# Altium schematic symbol library Regulator_Switching.SchLib: 1279 symbols (part 7 of 14)
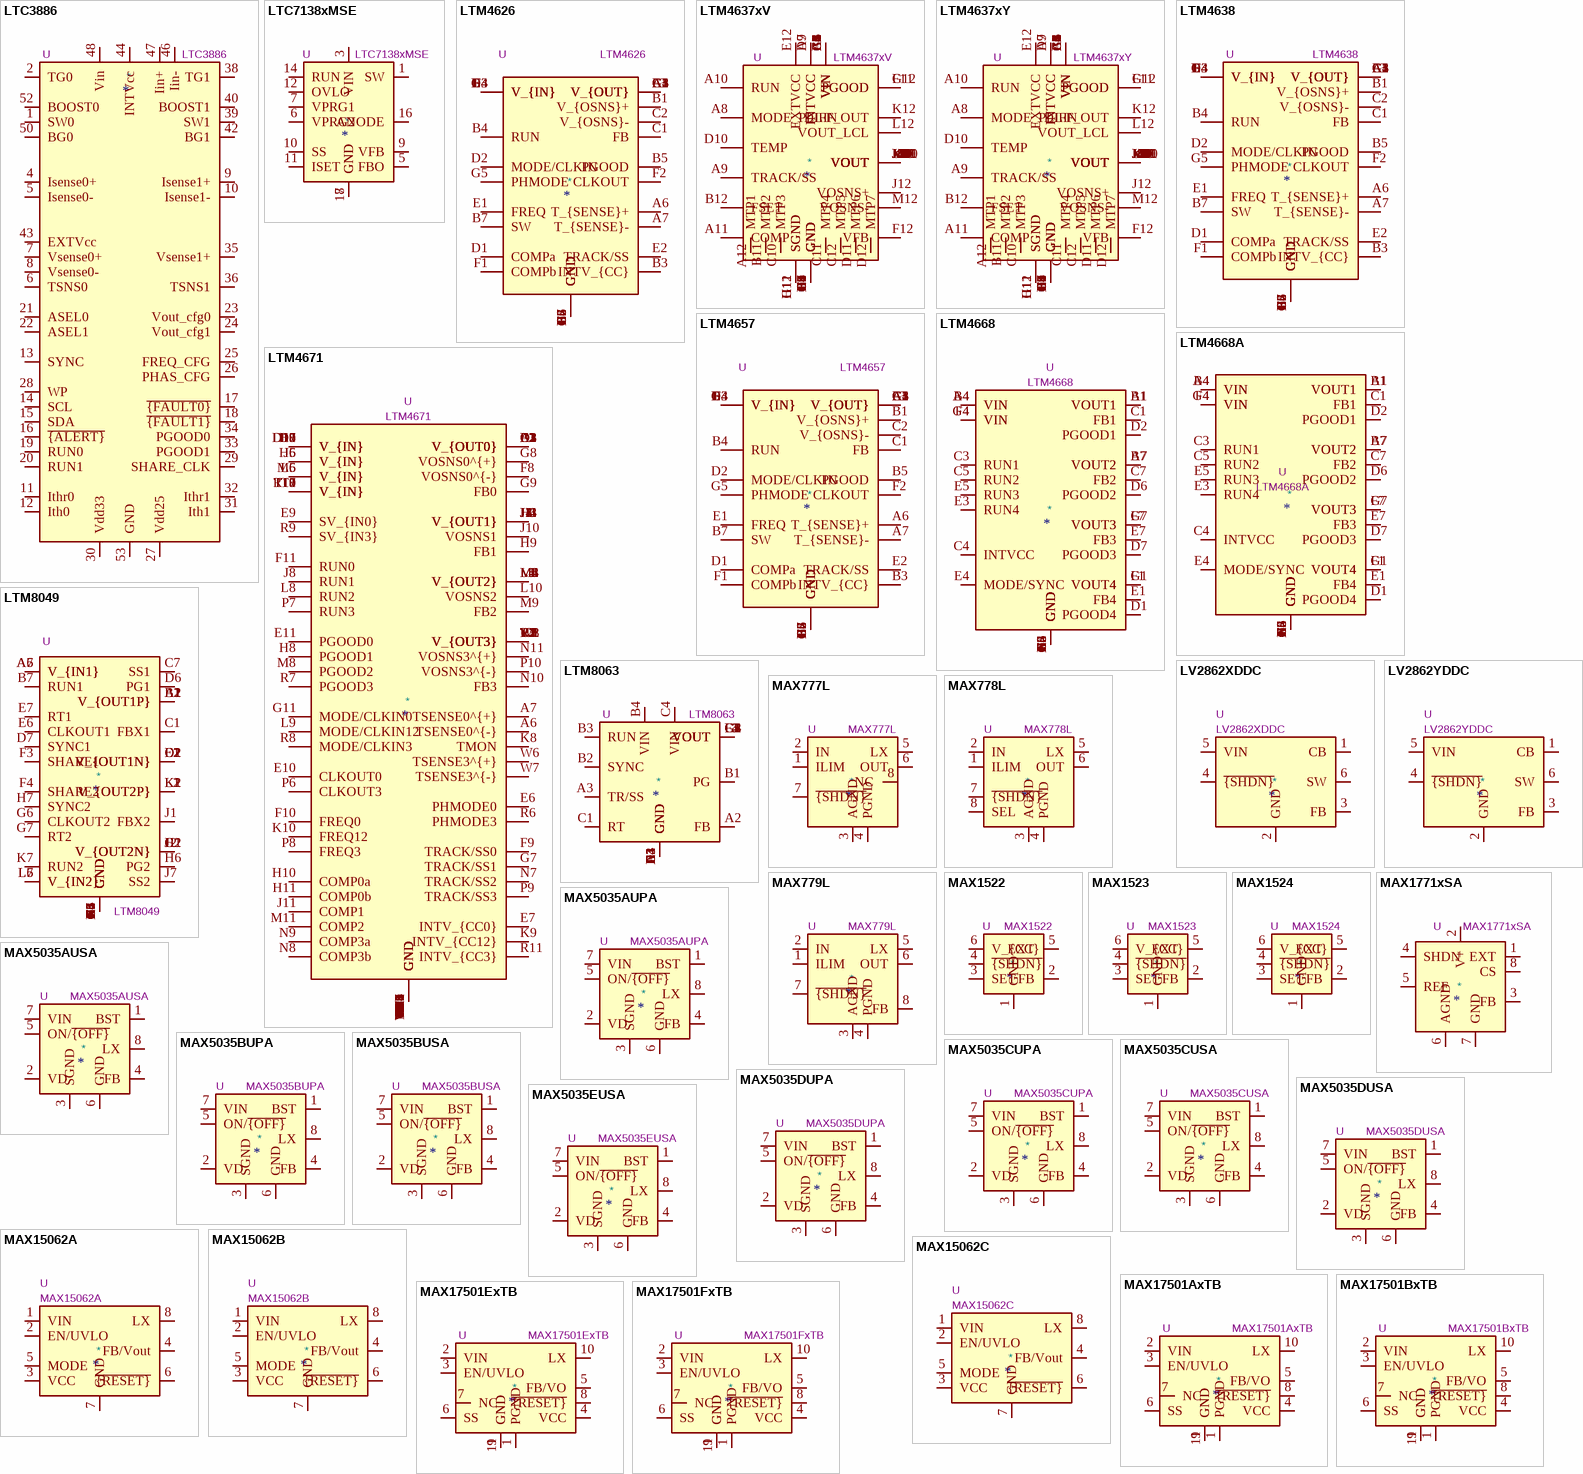
[diagram p38: symbols LTC3886 to MAX17501FxTB]

## MAX5035BUSA
designator *  value MAX5035BUSA  Reference: U
1A, High-Efficiency Step-Down DC-DC Converter, 5V fixed output voltage, Vin 76V, SO-8; ki_keywords: 5V 1A Step-Down Converter 76V; ki_fp_filters: SOIC*3.9x4.9mm*P1.27mm*; Footprint: Package_SO:SOIC-8_3.9x4.9mm_P1.27mm; Datasheet: http://datasheets.maximintegrated.com/en/ds/MAX5035.pdf; Description_: 1A, High-Efficiency Step-Down DC-DC Converter, 5V fixed output voltage, Vin 76V, SO-8
pins: 1 BST, 2 VD, 3 SGND, 4 FB, 5 ON/~{{OFF}}, 6 GND, 7 VIN, 8 LX

## MAX5035CUPA
designator *  value MAX5035CUPA  Reference: U
1A, High-Efficiency Step-Down DC-DC Converter, 12V fixed output voltage, Vin 76V, PDIP-8; ki_keywords: 12V 1A Step-Down Converter 76V; ki_fp_filters: DIP*W7.62mm*; Footprint: Package_DIP:DIP-8_W7.62mm; Datasheet: http://datasheets.maximintegrated.com/en/ds/MAX5035.pdf; Description_: 1A, High-Efficiency Step-Down DC-DC Converter, 12V fixed output voltage, Vin 76V, PDIP-8
pins: 1 BST, 2 VD, 3 SGND, 4 FB, 5 ON/~{{OFF}}, 6 GND, 7 VIN, 8 LX

## MAX5035CUSA
designator *  value MAX5035CUSA  Reference: U
1A, High-Efficiency Step-Down DC-DC Converter, 12V fixed output voltage, Vin 76V, SO-8; ki_keywords: 12V 1A Step-Down Converter 76V; ki_fp_filters: SOIC*3.9x4.9mm*P1.27mm*; Footprint: Package_SO:SOIC-8_3.9x4.9mm_P1.27mm; Datasheet: http://datasheets.maximintegrated.com/en/ds/MAX5035.pdf; Description_: 1A, High-Efficiency Step-Down DC-DC Converter, 12V fixed output voltage, Vin 76V, SO-8
pins: 1 BST, 2 VD, 3 SGND, 4 FB, 5 ON/~{{OFF}}, 6 GND, 7 VIN, 8 LX

## MAX5035DUPA
designator *  value MAX5035DUPA  Reference: U
1A, High-Efficiency Step-Down DC-DC Converter, adjustable output voltage, Vin 76V, PDIP-8; ki_keywords: Adjustable 1A Step-Down Converter 76V; ki_fp_filters: DIP*W7.62mm*; Footprint: Package_DIP:DIP-8_W7.62mm; Datasheet: http://datasheets.maximintegrated.com/en/ds/MAX5035.pdf; Description_: 1A, High-Efficiency Step-Down DC-DC Converter, adjustable output voltage, Vin 76V, PDIP-8
pins: 1 BST, 2 VD, 3 SGND, 4 FB, 5 ON/~{{OFF}}, 6 GND, 7 VIN, 8 LX

## MAX5035DUSA
designator *  value MAX5035DUSA  Reference: U
1A, High-Efficiency Step-Down DC-DC Converter, adjustable output voltage, Vin 76V, SO-8; ki_keywords: Adjustable 1A Step-Down Converter 76V; ki_fp_filters: SOIC*3.9x4.9mm*P1.27mm*; Footprint: Package_SO:SOIC-8_3.9x4.9mm_P1.27mm; Datasheet: http://datasheets.maximintegrated.com/en/ds/MAX5035.pdf; Description_: 1A, High-Efficiency Step-Down DC-DC Converter, adjustable output voltage, Vin 76V, SO-8
pins: 1 BST, 2 VD, 3 SGND, 4 FB, 5 ON/~{{OFF}}, 6 GND, 7 VIN, 8 LX

## MAX5035EUSA
designator *  value MAX5035EUSA  Reference: U
1A, High-Efficiency Step-Down DC-DC Converter, adjustable output voltage, Vin 76V, SO-8; ki_keywords: Adjustable 1A Step-Down Converter 76V; ki_fp_filters: SOIC*3.9x4.9mm*P1.27mm*; Footprint: Package_SO:SOIC-8_3.9x4.9mm_P1.27mm; Datasheet: http://datasheets.maximintegrated.com/en/ds/MAX5035.pdf; Description_: 1A, High-Efficiency Step-Down DC-DC Converter, adjustable output voltage, Vin 76V, SO-8
pins: 1 BST, 2 VD, 3 SGND, 4 FB, 5 ON/~{{OFF}}, 6 GND, 7 VIN, 8 LX

## MAX15062A
designator *  value MAX15062A  Reference: U
60V, 300mA, synchronous step-down dc-dc converter, 3.3V fixed output voltage, DFN-8; ki_keywords: step-down dc-dc switching regulator; ki_fp_filters: DFN*2x2mm*P0.5mm*; Footprint: Package_DFN_QFN:DFN-8_2x2mm_P0.5mm; Datasheet: http://datasheets.maximintegrated.com/en/ds/MAX15062.pdf; Description_: 60V, 300mA, synchronous step-down dc-dc converter, 3.3V fixed output voltage, DFN-8
pins: 1 VIN, 2 EN/UVLO, 3 VCC, 4 FB/Vout, 5 MODE, 6 ~{{RESET}}, 7 GND, 8 LX

## MAX15062B
designator *  value MAX15062B  Reference: U
60V, 300mA, synchronous step-down dc-dc converter, 5.0V fixed output voltage, DFN-8; ki_keywords: step-down dc-dc switching regulator; ki_fp_filters: DFN*2x2mm*P0.5mm*; Footprint: Package_DFN_QFN:DFN-8_2x2mm_P0.5mm; Datasheet: http://datasheets.maximintegrated.com/en/ds/MAX15062.pdf; Description_: 60V, 300mA, synchronous step-down dc-dc converter, 5.0V fixed output voltage, DFN-8
pins: 1 VIN, 2 EN/UVLO, 3 VCC, 4 FB/Vout, 5 MODE, 6 ~{{RESET}}, 7 GND, 8 LX

## MAX15062C
designator *  value MAX15062C  Reference: U
60V, 300mA, synchronous step-down dc-dc converter, adjustable output voltage, DFN-8; ki_keywords: step-down dc-dc switching regulator; ki_fp_filters: DFN*2x2mm*P0.5mm*; Footprint: Package_DFN_QFN:DFN-8_2x2mm_P0.5mm; Datasheet: http://datasheets.maximintegrated.com/en/ds/MAX15062.pdf; Description_: 60V, 300mA, synchronous step-down dc-dc converter, adjustable output voltage, DFN-8
pins: 1 VIN, 2 EN/UVLO, 3 VCC, 4 FB/Vout, 5 MODE, 6 ~{{RESET}}, 7 GND, 8 LX

## MAX17501AxTB
designator *  value MAX17501AxTB  Reference: U
4.5V–60Vin, 500mA, High-Efficiency, 3.3V Synchronous Step-Down DC-DC Converter, PFM Mode, TDFN-10; ki_keywords: Step-down dc-dc switching regulator; ki_fp_filters: TDFN*1EP*2x3mm*P0.5mm*; Footprint: Package_DFN_QFN:TDFN-10-1EP_2x3mm_P0.5mm_EP0.9x2mm; Datasheet: https://datasheets.maximintegrated.com/en/ds/MAX17501.pdf; Description_: 4.5V–60Vin, 500mA, High-Efficiency, 3.3V Synchronous Step-Down DC-DC Converter, PFM Mode, TDFN-10
pins: 1 PGND, 2 VIN, 3 EN/UVLO, 4 VCC, 5 FB/VO, 6 SS, 7 NC, 8 ~{{RESET}}, 9 GND, 10 LX, 11 GND

## MAX17501BxTB
designator *  value MAX17501BxTB  Reference: U
4.5V–60Vin, 500mA, High-Efficiency, 5V Synchronous Step-Down DC-DC Converter, PFM Mode, DFN-10; ki_keywords: Step-down dc-dc switching regulator; ki_fp_filters: TDFN*1EP*2x3mm*P0.5mm*; Footprint: Package_DFN_QFN:TDFN-10-1EP_2x3mm_P0.5mm_EP0.9x2mm; Datasheet: https://datasheets.maximintegrated.com/en/ds/MAX17501.pdf; Description_: 4.5V–60Vin, 500mA, High-Efficiency, 5V Synchronous Step-Down DC-DC Converter, PFM Mode, DFN-10
pins: 1 PGND, 2 VIN, 3 EN/UVLO, 4 VCC, 5 FB/VO, 6 SS, 7 NC, 8 ~{{RESET}}, 9 GND, 10 LX, 11 GND

## MAX17501ExTB
designator *  value MAX17501ExTB  Reference: U
4.5V–60Vin, 500mA, High-Efficiency, 3.3V Synchronous Step-Down DC-DC Converter, PWM Mode, DFN-10; ki_keywords: Step-down dc-dc switching regulator; ki_fp_filters: TDFN*1EP*2x3mm*P0.5mm*; Footprint: Package_DFN_QFN:TDFN-10-1EP_2x3mm_P0.5mm_EP0.9x2mm; Datasheet: https://datasheets.maximintegrated.com/en/ds/MAX17501.pdf; Description_: 4.5V–60Vin, 500mA, High-Efficiency, 3.3V Synchronous Step-Down DC-DC Converter, PWM Mode, DFN-10
pins: 1 PGND, 2 VIN, 3 EN/UVLO, 4 VCC, 5 FB/VO, 6 SS, 7 NC, 8 ~{{RESET}}, 9 GND, 10 LX, 11 GND

## MAX17501FxTB
designator *  value MAX17501FxTB  Reference: U
4.5V–60Vin, 500mA, High-Efficiency, 5V Synchronous Step-Down DC-DC Converter, PWM Mode, DFN-10; ki_keywords: Step-down dc-dc switching regulator; ki_fp_filters: TDFN*1EP*2x3mm*P0.5mm*; Footprint: Package_DFN_QFN:TDFN-10-1EP_2x3mm_P0.5mm_EP0.9x2mm; Datasheet: https://datasheets.maximintegrated.com/en/ds/MAX17501.pdf; Description_: 4.5V–60Vin, 500mA, High-Efficiency, 5V Synchronous Step-Down DC-DC Converter, PWM Mode, DFN-10
pins: 1 PGND, 2 VIN, 3 EN/UVLO, 4 VCC, 5 FB/VO, 6 SS, 7 NC, 8 ~{{RESET}}, 9 GND, 10 LX, 11 GND

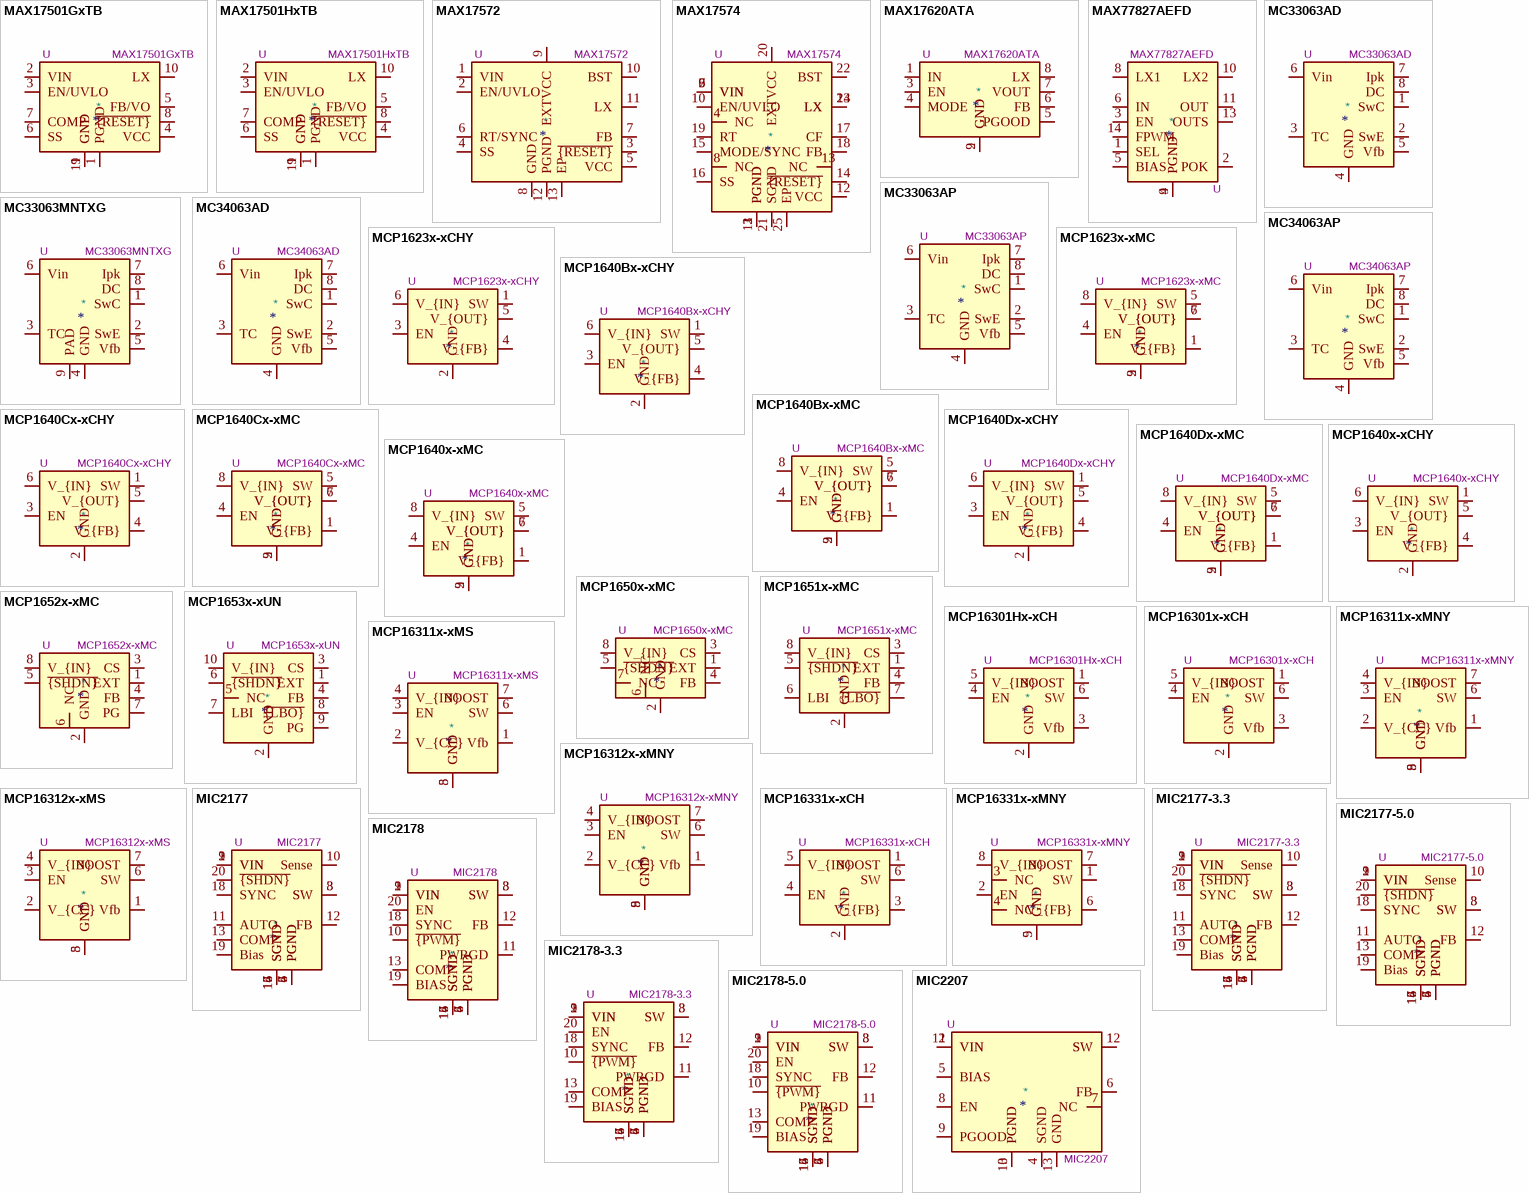
[diagram p15: symbols MAX17501GxTB to MIC2207]

## MAX17501GxTB
designator *  value MAX17501GxTB  Reference: U
4.5V–60Vin, 500mA, High-Efficiency, Adjustable Synchronous Step-Down DC-DC Converter, 600KHz, TDFN-10; ki_keywords: Step-down dc-dc switching regulator; ki_fp_filters: TDFN*1EP*2x3mm*P0.5mm*; Footprint: Package_DFN_QFN:TDFN-10-1EP_2x3mm_P0.5mm_EP0.9x2mm; Datasheet: https://datasheets.maximintegrated.com/en/ds/MAX17501.pdf; Description_: 4.5V–60Vin, 500mA, High-Efficiency, Adjustable Synchronous Step-Down DC-DC Converter, 600KHz, TDFN-10
pins: 1 PGND, 2 VIN, 3 EN/UVLO, 4 VCC, 5 FB/VO, 6 SS, 7 COMP, 8 ~{{RESET}}, 9 GND, 10 LX, 11 GND

## MAX17501HxTB
designator *  value MAX17501HxTB  Reference: U
4.5V–60Vin, 500mA, High-Efficiency, Adjustable Synchronous Step-Down DC-DC Converter, 300KHz, DFN-10; ki_keywords: Step-down dc-dc switching regulator; ki_fp_filters: TDFN*1EP*2x3mm*P0.5mm*; Footprint: Package_DFN_QFN:TDFN-10-1EP_2x3mm_P0.5mm_EP0.9x2mm; Datasheet: https://datasheets.maximintegrated.com/en/ds/MAX17501.pdf; Description_: 4.5V–60Vin, 500mA, High-Efficiency, Adjustable Synchronous Step-Down DC-DC Converter, 300KHz, DFN-10
pins: 1 PGND, 2 VIN, 3 EN/UVLO, 4 VCC, 5 FB/VO, 6 SS, 7 COMP, 8 ~{{RESET}}, 9 GND, 10 LX, 11 GND

## MAX17572
designator *  value MAX17572  Reference: U
4.5V–60V, 1A, High-Efficiency, Synchronous Step-Down DC-DC Converter with Internal Compensation, DFN-12; ki_keywords: Step-down dc-dc switching regulator; ki_fp_filters: DFN*1EP*3x3mm*P0.5mm*; Footprint: Package_DFN_QFN:DFN-12-1EP_3x3mm_P0.5mm_EP2.05x2.86mm; Datasheet: https://datasheets.maximintegrated.com/en/ds/MAX17572.pdf; Description_: 4.5V–60V, 1A, High-Efficiency, Synchronous Step-Down DC-DC Converter with Internal Compensation, DFN-12
pins: 1 VIN, 2 EN/UVLO, 3 ~{{RESET}}, 4 SS, 5 VCC, 6 RT/SYNC, 7 FB, 8 GND, 9 EXTVCC, 10 BST, 11 LX, 12 PGND, 13 EP

## MAX17574
designator *  value MAX17574  Reference: U
4.5V–60V, 3A, High-Efficiency, Synchronous Step-Down DC-DC Converter with Internal Compensation, QFN-24; ki_keywords: Step-down dc-dc switching regulator; ki_fp_filters: QFN*1EP*4x5mm*P0.5mm*; Footprint: Package_DFN_QFN:QFN-24-1EP_4x5mm_P0.5mm_EP2.65x3.65mm; Datasheet: https://datasheets.maximintegrated.com/en/ds/MAX17574.pdf; Description_: 4.5V–60V, 3A, High-Efficiency, Synchronous Step-Down DC-DC Converter with Internal Compensation, QFN-24
pins: 1 LX, 2 PGND, 3 PGND, 4 NC, 5 VIN, 6 VIN, 7 VIN, 8 NC, 9 VIN, 10 EN/UVLO, 11 PGND, 12 VCC, 13 NC, 14 ~{{RESET}}, 15 MODE/SYNC, 16 SS, 17 CF, 18 FB, 19 RT, 20 EXTVCC, 21 SGND, 22 BST, 23 LX, 24 LX, 25 EP

## MAX17620ATA
designator *  value MAX17620ATA  Reference: U
2.7-5.5V, 600mA, Synchronous Step-Down DC-DC Converter with Integrated MOSFETs, DFN-8; ki_keywords: switching-regulator; ki_fp_filters: TDFN*1EP*2x2mm*P0.5mm*; Footprint: Package_DFN_QFN:TDFN-8-1EP_2x2mm_P0.5mm_EP0.8x1.2mm; Datasheet: https://datasheets.maximintegrated.com/en/ds/MAX17620.pdf; Description_: 2.7-5.5V, 600mA, Synchronous Step-Down DC-DC Converter with Integrated MOSFETs, DFN-8
pins: 1 IN, 2 GND, 3 EN, 4 MODE, 5 PGOOD, 6 FB, 7 VOUT, 8 LX, 9 GND

## MAX77827AEFD
designator *  value MAX77827AEFD  Reference: U
5.5V Input, 1.8A/3.1A Switch Buck-Boost, QFN-14; ki_keywords: Buck Boost Switching; ki_fp_filters: Maxim?FC2QFN*14*2.5x2.5mm*P0.5mm*; Footprint: Package_DFN_QFN:Maxim_FC2QFN-14_2.5x2.5mm_P0.5mm; Datasheet: https://www.analog.com/media/en/technical-documentation/data-sheets/MAX77827.pdf; Description_: 5.5V Input, 1.8A/3.1A Switch Buck-Boost, QFN-14
pins: 1 SEL, 2 POK, 3 EN, 4 PGND, 5 BIAS, 6 IN, 8 LX1, 9 PGND, 10 LX2, 11 OUT, 13 OUTS, 14 FPWM

## MC33063AD
designator *  value MC33063AD  Reference: U
1.5A, step-up/down/inverting switching regulator, 3-40V Vin, 100kHz, SO-8; ki_keywords: smps buck boost inverting; ki_fp_filters: SOIC*3.9x4.9mm*P1.27mm*; Footprint: Package_SO:SOIC-8_3.9x4.9mm_P1.27mm; Datasheet: http://www.onsemi.com/pub_link/Collateral/MC34063A-D.PDF; Description_: 1.5A, step-up/down/inverting switching regulator, 3-40V Vin, 100kHz, SO-8
pins: 1 SwC, 2 SwE, 3 TC, 4 GND, 5 Vfb, 6 Vin, 7 Ipk, 8 DC

## MC33063AP
designator *  value MC33063AP  Reference: U
1.5A, step-up/down/inverting switching regulator, 3-40V Vin, 100kHz, DIP-8; ki_keywords: smps buck boost inverting; ki_fp_filters: DIP*W7.62mm*; Footprint: Package_DIP:DIP-8_W7.62mm; Datasheet: http://www.onsemi.com/pub_link/Collateral/MC34063A-D.PDF; Description_: 1.5A, step-up/down/inverting switching regulator, 3-40V Vin, 100kHz, DIP-8
pins: 1 SwC, 2 SwE, 3 TC, 4 GND, 5 Vfb, 6 Vin, 7 Ipk, 8 DC

## MC33063MNTXG
designator *  value MC33063MNTXG  Reference: U
1.5A, step-up/down/inverting switching regulator, 3-40V Vin, 100kHz, DFN-8; ki_keywords: smps buck boost inverting; ki_fp_filters: DFN*EP*4x4mm*P0.8mm*; Footprint: Package_DFN_QFN:DFN-8-1EP_4x4mm_P0.8mm_EP2.5x3.6mm; Datasheet: http://www.onsemi.com/pub_link/Collateral/MC34063A-D.PDF; Description_: 1.5A, step-up/down/inverting switching regulator, 3-40V Vin, 100kHz, DFN-8
pins: 1 SwC, 2 SwE, 3 TC, 4 GND, 5 Vfb, 6 Vin, 7 Ipk, 8 DC, 9 PAD

## MC34063AD
designator *  value MC34063AD  Reference: U
1.5A, step-up/down/inverting switching regulator, 3-40V Vin, 100kHz, SO-8; ki_keywords: smps buck boost inverting; ki_fp_filters: SOIC*3.9x4.9mm*P1.27mm*; Footprint: Package_SO:SOIC-8_3.9x4.9mm_P1.27mm; Datasheet: http://www.onsemi.com/pub_link/Collateral/MC34063A-D.PDF; Description_: 1.5A, step-up/down/inverting switching regulator, 3-40V Vin, 100kHz, SO-8
pins: 1 SwC, 2 SwE, 3 TC, 4 GND, 5 Vfb, 6 Vin, 7 Ipk, 8 DC

## MC34063AP
designator *  value MC34063AP  Reference: U
1.5A, step-up/down/inverting switching regulator, 3-40V Vin, 100kHz, DIP-8; ki_keywords: smps buck boost inverting; ki_fp_filters: DIP*W7.62mm*; Footprint: Package_DIP:DIP-8_W7.62mm; Datasheet: http://www.onsemi.com/pub_link/Collateral/MC34063A-D.PDF; Description_: 1.5A, step-up/down/inverting switching regulator, 3-40V Vin, 100kHz, DIP-8
pins: 1 SwC, 2 SwE, 3 TC, 4 GND, 5 Vfb, 6 Vin, 7 Ipk, 8 DC

## MCP1623x-xCHY
designator *  value MCP1623x-xCHY  Reference: U
Low-Voltage Input Boost Regulator for PIC Microcontrollers, SOT-23-6; ki_keywords: Step-Up Boost DC-DC Regulator Adjustable; ki_fp_filters: SOT?23*; Footprint: Package_TO_SOT_SMD:SOT-23-6; Datasheet: http://ww1.microchip.com/downloads/en/DeviceDoc/40001420D.pdf; Description_: Low-Voltage Input Boost Regulator for PIC Microcontrollers, SOT-23-6
pins: 1 SW, 2 GND, 3 EN, 4 V_{FB}, 5 V_{OUT}, 6 V_{IN}

## MCP1623x-xMC
designator *  value MCP1623x-xMC  Reference: U
Low-Voltage Input Boost Regulator for PIC Microcontrollers, DFN-8; ki_keywords: Step-Up Boost DC-DC Regulator Adjustable; ki_fp_filters: DFN*1EP*3x2mm*P0.5mm*; Footprint: Package_DFN_QFN:DFN-8-1EP_3x2mm_P0.5mm_EP1.75x1.45mm; Datasheet: http://ww1.microchip.com/downloads/en/DeviceDoc/40001420D.pdf; Description_: Low-Voltage Input Boost Regulator for PIC Microcontrollers, DFN-8
pins: 1 V_{FB}, 2 GND, 3 GND, 4 EN, 5 SW, 6 V_{OUT}, 7 V_{OUT}, 8 V_{IN}, 9 GND

## MCP1640Bx-xCHY
designator *  value MCP1640Bx-xCHY  Reference: U
Synchronous Boost Regulator, Adjustable Output 2.0V-5.5V, PWM Only True Disconnect, SOT-23; ki_keywords: Step-Up Boost DC-DC Regulator Adjustable; ki_fp_filters: SOT?23*; Footprint: Package_TO_SOT_SMD:SOT-23-6; Datasheet: http://ww1.microchip.com/downloads/en/DeviceDoc/20002234D.pdf; Description_: Synchronous Boost Regulator, Adjustable Output 2.0V-5.5V, PWM Only True Disconnect, SOT-23
pins: 1 SW, 2 GND, 3 EN, 4 V_{FB}, 5 V_{OUT}, 6 V_{IN}

## MCP1640Bx-xMC
designator *  value MCP1640Bx-xMC  Reference: U
Synchronous Boost Regulator, Adjustable Output 2.0V-5.5V, PWM Only True Disconnect, DFN-8; ki_keywords: Step-Up Boost DC-DC Regulator Adjustable; ki_fp_filters: DFN*1EP*3x2mm*P0.5mm*; Footprint: Package_DFN_QFN:DFN-8-1EP_3x2mm_P0.5mm_EP1.75x1.45mm; Datasheet: http://ww1.microchip.com/downloads/en/DeviceDoc/20002234D.pdf; Description_: Synchronous Boost Regulator, Adjustable Output 2.0V-5.5V, PWM Only True Disconnect, DFN-8
pins: 1 V_{FB}, 2 GND, 3 GND, 4 EN, 5 SW, 6 V_{OUT}, 7 V_{OUT}, 8 V_{IN}, 9 GND

## MCP1640Cx-xCHY
designator *  value MCP1640Cx-xCHY  Reference: U
Synchronous Boost Regulator, Adjustable Output 2.0V-5.5V, PWM/PFM Input to Output Bypass, SOT-23; ki_keywords: Step-Up Boost DC-DC Regulator Adjustable; ki_fp_filters: SOT?23*; Footprint: Package_TO_SOT_SMD:SOT-23-6; Datasheet: http://ww1.microchip.com/downloads/en/DeviceDoc/20002234D.pdf; Description_: Synchronous Boost Regulator, Adjustable Output 2.0V-5.5V, PWM/PFM Input to Output Bypass, SOT-23
pins: 1 SW, 2 GND, 3 EN, 4 V_{FB}, 5 V_{OUT}, 6 V_{IN}

## MCP1640Cx-xMC
designator *  value MCP1640Cx-xMC  Reference: U
Synchronous Boost Regulator, Adjustable Output 2.0V-5.5V, PWM/PFM Input to Output Bypass, DFN-8; ki_keywords: Step-Up Boost DC-DC Regulator Adjustable; ki_fp_filters: DFN*1EP*3x2mm*P0.5mm*; Footprint: Package_DFN_QFN:DFN-8-1EP_3x2mm_P0.5mm_EP1.75x1.45mm; Datasheet: http://ww1.microchip.com/downloads/en/DeviceDoc/20002234D.pdf; Description_: Synchronous Boost Regulator, Adjustable Output 2.0V-5.5V, PWM/PFM Input to Output Bypass, DFN-8
pins: 1 V_{FB}, 2 GND, 3 GND, 4 EN, 5 SW, 6 V_{OUT}, 7 V_{OUT}, 8 V_{IN}, 9 GND

## MCP1640Dx-xCHY
designator *  value MCP1640Dx-xCHY  Reference: U
Synchronous Boost Regulator, Adjustable Output 2.0V-5.5V, PWM Only Input to Output Bypass, SOT-23; ki_keywords: Step-Up Boost DC-DC Regulator Adjustable; ki_fp_filters: SOT?23*; Footprint: Package_TO_SOT_SMD:SOT-23-6; Datasheet: http://ww1.microchip.com/downloads/en/DeviceDoc/20002234D.pdf; Description_: Synchronous Boost Regulator, Adjustable Output 2.0V-5.5V, PWM Only Input to Output Bypass, SOT-23
pins: 1 SW, 2 GND, 3 EN, 4 V_{FB}, 5 V_{OUT}, 6 V_{IN}

## MCP1640Dx-xMC
designator *  value MCP1640Dx-xMC  Reference: U
Synchronous Boost Regulator, Adjustable Output 2.0V-5.5V, PWM Only Input to Output Bypass, DFN-8; ki_keywords: Step-Up Boost DC-DC Regulator Adjustable; ki_fp_filters: DFN*1EP*3x2mm*P0.5mm*; Footprint: Package_DFN_QFN:DFN-8-1EP_3x2mm_P0.5mm_EP1.75x1.45mm; Datasheet: http://ww1.microchip.com/downloads/en/DeviceDoc/20002234D.pdf; Description_: Synchronous Boost Regulator, Adjustable Output 2.0V-5.5V, PWM Only Input to Output Bypass, DFN-8
pins: 1 V_{FB}, 2 GND, 3 GND, 4 EN, 5 SW, 6 V_{OUT}, 7 V_{OUT}, 8 V_{IN}, 9 GND

## MCP1640x-xCHY
designator *  value MCP1640x-xCHY  Reference: U
Synchronous Boost Regulator, Adjustable Output 2.0V-5.5V, PWM/PFM True Disconnect, SOT-23; ki_keywords: Step-Up Boost DC-DC Regulator Adjustable; ki_fp_filters: SOT?23*; Footprint: Package_TO_SOT_SMD:SOT-23-6; Datasheet: http://ww1.microchip.com/downloads/en/DeviceDoc/20002234D.pdf; Description_: Synchronous Boost Regulator, Adjustable Output 2.0V-5.5V, PWM/PFM True Disconnect, SOT-23
pins: 1 SW, 2 GND, 3 EN, 4 V_{FB}, 5 V_{OUT}, 6 V_{IN}

## MCP1640x-xMC
designator *  value MCP1640x-xMC  Reference: U
Synchronous Boost Regulator, Adjustable Output 2.0V-5.5V, PWM/PFM True Disconnect, DFN-8; ki_keywords: Step-Up Boost DC-DC Regulator Adjustable; ki_fp_filters: DFN*1EP*3x2mm*P0.5mm*; Footprint: Package_DFN_QFN:DFN-8-1EP_3x2mm_P0.5mm_EP1.75x1.45mm; Datasheet: http://ww1.microchip.com/downloads/en/DeviceDoc/20002234D.pdf; Description_: Synchronous Boost Regulator, Adjustable Output 2.0V-5.5V, PWM/PFM True Disconnect, DFN-8
pins: 1 V_{FB}, 2 GND, 3 GND, 4 EN, 5 SW, 6 V_{OUT}, 7 V_{OUT}, 8 V_{IN}, 9 GND

## MCP1650x-xMC
designator *  value MCP1650x-xMC  Reference: U
750 kHz Boost Controller, 3.3-100V output voltage, 5W, MSOP-8; ki_fp_filters: MSOP*3x3mm*P0.65mm*; Footprint: Package_SO:MSOP-8_3x3mm_P0.65mm; Datasheet: http://ww1.microchip.com/downloads/en/DeviceDoc/21876B.pdf; Description_: 750 kHz Boost Controller, 3.3-100V output voltage, 5W, MSOP-8; ki_keywords: boost controller
pins: 1 EXT, 2 GND, 3 CS, 4 FB, 5 ~{{SHDN}}, 6 NC, 7 NC, 8 V_{IN}

## MCP1651x-xMC
designator *  value MCP1651x-xMC  Reference: U
750 kHz Boost Controller, 3.3-100V output voltage, 5W, Low Battery Detection, MSOP-8; ki_fp_filters: MSOP*3x3mm*P0.65mm*; Footprint: Package_SO:MSOP-8_3x3mm_P0.65mm; Datasheet: http://ww1.microchip.com/downloads/en/DeviceDoc/21876B.pdf; Description_: 750 kHz Boost Controller, 3.3-100V output voltage, 5W, Low Battery Detection, MSOP-8; ki_keywords: boost controller
pins: 1 EXT, 2 GND, 3 CS, 4 FB, 5 ~{{SHDN}}, 6 LBI, 7 ~{{LBO}}, 8 V_{IN}

## MCP1652x-xMC
designator *  value MCP1652x-xMC  Reference: U
750 kHz Boost Controller, 3.3-100V output voltage, 5W, Power Good Detection, MSOP-8; ki_fp_filters: MSOP*3x3mm*P0.65mm*; Footprint: Package_SO:MSOP-8_3x3mm_P0.65mm; Datasheet: http://ww1.microchip.com/downloads/en/DeviceDoc/21876B.pdf; Description_: 750 kHz Boost Controller, 3.3-100V output voltage, 5W, Power Good Detection, MSOP-8; ki_keywords: boost controller
pins: 1 EXT, 2 GND, 3 CS, 4 FB, 5 ~{{SHDN}}, 6 NC, 7 PG, 8 V_{IN}

## MCP1653x-xUN
designator *  value MCP1653x-xUN  Reference: U
750 kHz Boost Controller, 3.3-100V output voltage, 5W, Low Battery Detection, Power Good Detection, MSOP-10; ki_fp_filters: MSOP*3x3mm*P0.5mm*; Footprint: Package_SO:MSOP-10_3x3mm_P0.5mm; Datasheet: http://ww1.microchip.com/downloads/en/DeviceDoc/21876B.pdf; Description_: 750 kHz Boost Controller, 3.3-100V output voltage, 5W, Low Battery Detection, Power Good Detection, MSOP-10; ki_keywords: boost controller
pins: 1 EXT, 2 GND, 3 CS, 4 FB, 5 NC, 6 ~{{SHDN}}, 7 LBI, 8 ~{{LBO}}, 9 PG, 10 V_{IN}

## MCP16301Hx-xCH
designator *  value MCP16301Hx-xCH  Reference: U
1A, 4.7 to 36V Input, High Voltage Input integrated switch step-down regulator, SOT-23-6; ki_keywords: switching buck converter power-supply voltage regulator; ki_fp_filters: SOT?23*; Footprint: Package_TO_SOT_SMD:SOT-23-6; Datasheet: http://ww1.microchip.com/downloads/en/DeviceDoc/20005004D.pdf; Description_: 1A, 4.7 to 36V Input, High Voltage Input integrated switch step-down regulator, SOT-23-6
pins: 1 BOOST, 2 GND, 3 Vfb, 4 EN, 5 V_{IN}, 6 SW

## MCP16301x-xCH
designator *  value MCP16301x-xCH  Reference: U
1A, 4.0 to 30V Input, High Voltage Input integrated switch step-down regulator, SOT-23-6; ki_keywords: switching buck converter power-supply voltage regulator; ki_fp_filters: SOT?23*; Footprint: Package_TO_SOT_SMD:SOT-23-6; Datasheet: http://ww1.microchip.com/downloads/en/DeviceDoc/20005004D.pdf; Description_: 1A, 4.0 to 30V Input, High Voltage Input integrated switch step-down regulator, SOT-23-6
pins: 1 BOOST, 2 GND, 3 Vfb, 4 EN, 5 V_{IN}, 6 SW

## MCP16311x-xMNY
designator *  value MCP16311x-xMNY  Reference: U
1A Output Voltage, 30V Input, integrated switch step-down regulator, PFM/PWM modulation, DFN-8; ki_keywords: switching buck converter power-supply voltage regulator; ki_fp_filters: DFN*1EP*3x2mm*P0.5mm*; Footprint: Package_DFN_QFN:DFN-8-1EP_3x2mm_P0.5mm_EP1.75x1.45mm; Datasheet: https://ww1.microchip.com/downloads/en/DeviceDoc/MCP16311-Family-Data-Sheet-DS20005255C.pdf; Description_: 1A Output Voltage, 30V Input, integrated switch step-down regulator, PFM/PWM modulation, DFN-8
pins: 1 Vfb, 2 V_{CC}, 3 EN, 4 V_{IN}, 5 GND, 6 SW, 7 BOOST, 8 GND, 9 GND

## MCP16311x-xMS
designator *  value MCP16311x-xMS  Reference: U
30V Input, 1A Output Voltage, integrated switch step-down regulator, PFM/PWM modulation, MSOP-8; ki_keywords: switching buck converter power-supply voltage regulator; ki_fp_filters: MSOP*3x3mm*P0.65mm*; Footprint: Package_SO:MSOP-8_3x3mm_P0.65mm; Datasheet: https://ww1.microchip.com/downloads/en/DeviceDoc/MCP16311-Family-Data-Sheet-DS20005255C.pdf; Description_: 30V Input, 1A Output Voltage, integrated switch step-down regulator, PFM/PWM modulation, MSOP-8
pins: 1 Vfb, 2 V_{CC}, 3 EN, 4 V_{IN}, 5 GND, 6 SW, 7 BOOST, 8 GND

## MCP16312x-xMNY
designator *  value MCP16312x-xMNY  Reference: U
1A Output Voltage, 30V Input, integrated switch step-down regulator, PWM modulation, DFN-8; ki_keywords: switching buck converter power-supply voltage regulator; ki_fp_filters: DFN*1EP*3x2mm*P0.5mm*; Footprint: Package_DFN_QFN:DFN-8-1EP_3x2mm_P0.5mm_EP1.75x1.45mm; Datasheet: https://ww1.microchip.com/downloads/en/DeviceDoc/MCP16311-Family-Data-Sheet-DS20005255C.pdf; Description_: 1A Output Voltage, 30V Input, integrated switch step-down regulator, PWM modulation, DFN-8
pins: 1 Vfb, 2 V_{CC}, 3 EN, 4 V_{IN}, 5 GND, 6 SW, 7 BOOST, 8 GND, 9 GND

## MCP16312x-xMS
designator *  value MCP16312x-xMS  Reference: U
1A Output Voltage, 30V Input, integrated switch step-down regulator with, modulation, MSOP-8; ki_keywords: switching buck converter power-supply voltage regulator; ki_fp_filters: MSOP*3x3mm*P0.65mm*; Footprint: Package_SO:MSOP-8_3x3mm_P0.65mm; Datasheet: https://ww1.microchip.com/downloads/en/DeviceDoc/MCP16311-Family-Data-Sheet-DS20005255C.pdf; Description_: 1A Output Voltage, 30V Input, integrated switch step-down regulator with, modulation, MSOP-8
pins: 1 Vfb, 2 V_{CC}, 3 EN, 4 V_{IN}, 5 GND, 6 SW, 7 BOOST, 8 GND

## MCP16331x-xCH
designator *  value MCP16331x-xCH  Reference: U
High-Voltage Input Integrated Switch Step-Down Regulator, VDD +4.4V to 50V, Out +2.0V to +24V, SOT-23; ki_fp_filters: SOT?23*; Footprint: Package_TO_SOT_SMD:SOT-23-6; Datasheet: http://ww1.microchip.com/downloads/en/DeviceDoc/20005308C.pdf; Description_: High-Voltage Input Integrated Switch Step-Down Regulator, VDD +4.4V to 50V, Out +2.0V to +24V, SOT-23; ki_keywords: High-Voltage Input Integrated Switch Step-Down Regulator
pins: 1 BOOST, 2 GND, 3 V_{FB}, 4 EN, 5 V_{IN}, 6 SW

## MCP16331x-xMNY
designator *  value MCP16331x-xMNY  Reference: U
High-Voltage Input Integrated Switch Step-Down Regulator, VDD +4.4V to 50V, Out +2.0V to +24V, TDFN-8; ki_fp_filters: DFN*1EP*3x2mm*P0.5mm*; Footprint: Package_DFN_QFN:DFN-8-1EP_3x2mm_P0.5mm_EP1.75x1.45mm; Datasheet: http://ww1.microchip.com/downloads/en/DeviceDoc/20005308C.pdf; Description_: High-Voltage Input Integrated Switch Step-Down Regulator, VDD +4.4V to 50V, Out +2.0V to +24V, TDFN-8; ki_keywords: High-Voltage Input Integrated Switch Step-Down Regulator
pins: 1 SW, 2 EN, 3 NC, 4 NC, 5 GND, 6 V_{FB}, 7 BOOST, 8 V_{IN}, 9 GND

## MIC2177
designator *  value MIC2177  Reference: U
2.5A Synchronous Buck Regulator, Adjustable Output Voltage, SO-20W; ki_keywords: Synchronous Buck Regulator adjustable; ki_fp_filters: SOIC*W?7.5x12.8mm?P1.27mm*; Footprint: Package_SO:SOIC-20W_7.5x12.8mm_P1.27mm; Datasheet: http://ww1.microchip.com/downloads/en/DeviceDoc/mic2177.pdf; Description_: 2.5A Synchronous Buck Regulator, Adjustable Output Voltage, SO-20W
pins: 1 VIN, 2 VIN, 3 SW, 4 PGND, 5 PGND, 6 PGND, 7 PGND, 8 SW, 9 VIN, 10 Sense, 11 AUTO, 12 FB, 13 COMP, 14 SGND, 15 SGND, 16 SGND, 17 SGND, 18 SYNC, 19 Bias, 20 ~{{SHDN}}

## MIC2177-3.3
designator *  value MIC2177-3.3  Reference: U
2.5A Synchronous Buck Regulator, 3.3V Fixed Output Voltage, SO-20W; ki_keywords: Synchronous Buck Regulator fixed; ki_fp_filters: SOIC*W?7.5x12.8mm?P1.27mm*; Footprint: Package_SO:SOIC-20W_7.5x12.8mm_P1.27mm; Datasheet: http://ww1.microchip.com/downloads/en/DeviceDoc/mic2177.pdf; Description_: 2.5A Synchronous Buck Regulator, 3.3V Fixed Output Voltage, SO-20W
pins: 1 VIN, 2 VIN, 3 SW, 4 PGND, 5 PGND, 6 PGND, 7 PGND, 8 SW, 9 VIN, 10 Sense, 11 AUTO, 12 FB, 13 COMP, 14 SGND, 15 SGND, 16 SGND, 17 SGND, 18 SYNC, 19 Bias, 20 ~{{SHDN}}

## MIC2177-5.0
designator *  value MIC2177-5.0  Reference: U
2.5A Synchronous Buck Regulator, 5.0V Fixed Output Voltage, SO-20W; ki_keywords: Synchronous Buck Regulator fixed; ki_fp_filters: SOIC*W?7.5x12.8mm?P1.27mm*; Footprint: Package_SO:SOIC-20W_7.5x12.8mm_P1.27mm; Datasheet: http://ww1.microchip.com/downloads/en/DeviceDoc/mic2177.pdf; Description_: 2.5A Synchronous Buck Regulator, 5.0V Fixed Output Voltage, SO-20W
pins: 1 VIN, 2 VIN, 3 SW, 4 PGND, 5 PGND, 6 PGND, 7 PGND, 8 SW, 9 VIN, 10 Sense, 11 AUTO, 12 FB, 13 COMP, 14 SGND, 15 SGND, 16 SGND, 17 SGND, 18 SYNC, 19 Bias, 20 ~{{SHDN}}

## MIC2178
designator *  value MIC2178  Reference: U
2.5A Synchronous Buck Regulator, 4.5-16.5V Input Voltage, Adjustable Output Voltage, SO-20W; ki_keywords: Synchronous Buck Regulator adjustable; ki_fp_filters: SOIC*W*7.5x12.8mm*P1.27mm*; Footprint: Package_SO:SOIC-20W_7.5x12.8mm_P1.27mm; Datasheet: http://ww1.microchip.com/downloads/en/DeviceDoc/mic2177.pdf; Description_: 2.5A Synchronous Buck Regulator, 4.5-16.5V Input Voltage, Adjustable Output Voltage, SO-20W
pins: 1 VIN, 2 VIN, 3 SW, 4 PGND, 5 PGND, 6 PGND, 7 PGND, 8 SW, 9 VIN, 10 ~{{PWM}}, 11 PWRGD, 12 FB, 13 COMP, 14 SGND, 15 SGND, 16 SGND, 17 SGND, 18 SYNC, 19 BIAS, 20 EN

## MIC2178-3.3
designator *  value MIC2178-3.3  Reference: U
2.5A Synchronous Buck Regulator, 4.5-16.5V Input Voltage, 3.3V Fixed Output Voltage, SO-20W; ki_keywords: Synchronous Buck Regulator fixed; ki_fp_filters: SOIC*W*7.5x12.8mm*P1.27mm*; Footprint: Package_SO:SOIC-20W_7.5x12.8mm_P1.27mm; Datasheet: http://ww1.microchip.com/downloads/en/DeviceDoc/mic2177.pdf; Description_: 2.5A Synchronous Buck Regulator, 4.5-16.5V Input Voltage, 3.3V Fixed Output Voltage, SO-20W
pins: 1 VIN, 2 VIN, 3 SW, 4 PGND, 5 PGND, 6 PGND, 7 PGND, 8 SW, 9 VIN, 10 ~{{PWM}}, 11 PWRGD, 12 FB, 13 COMP, 14 SGND, 15 SGND, 16 SGND, 17 SGND, 18 SYNC, 19 BIAS, 20 EN

## MIC2178-5.0
designator *  value MIC2178-5.0  Reference: U
2.5A Synchronous Buck Regulator, 4.5-16.5V Input Voltage, 5.0V Fixed Output Voltage, SO-20W; ki_keywords: Synchronous Buck Regulator fixed; ki_fp_filters: SOIC*W*7.5x12.8mm*P1.27mm*; Footprint: Package_SO:SOIC-20W_7.5x12.8mm_P1.27mm; Datasheet: http://ww1.microchip.com/downloads/en/DeviceDoc/mic2177.pdf; Description_: 2.5A Synchronous Buck Regulator, 4.5-16.5V Input Voltage, 5.0V Fixed Output Voltage, SO-20W
pins: 1 VIN, 2 VIN, 3 SW, 4 PGND, 5 PGND, 6 PGND, 7 PGND, 8 SW, 9 VIN, 10 ~{{PWM}}, 11 PWRGD, 12 FB, 13 COMP, 14 SGND, 15 SGND, 16 SGND, 17 SGND, 18 SYNC, 19 BIAS, 20 EN

## MIC2207
designator *  value MIC2207  Reference: U
3A 2MHz Non-Synchronous Buck Regulator, DFN-12; ki_keywords: adjustable switching regulator; ki_fp_filters: DFN*1EP*3x3mm*P0.5mm*; Footprint: Package_DFN_QFN:DFN-12-1EP_3x3mm_P0.5mm_EP1.7x2.4mm; Datasheet: https://ww1.microchip.com/downloads/aemDocuments/documents/APID/ProductDocuments/DataSheets/MIC2207-2MHz-3A-PWM-Buck-Regulator-DS20006470A.pdf; Description_: 3A 2MHz Non-Synchronous Buck Regulator, DFN-12
pins: 1 SW, 2 VIN, 3 PGND, 4 SGND, 5 BIAS, 6 FB, 7 NC, 8 EN, 9 PGOOD, 10 PGND, 11 VIN, 12 SW, 13 GND

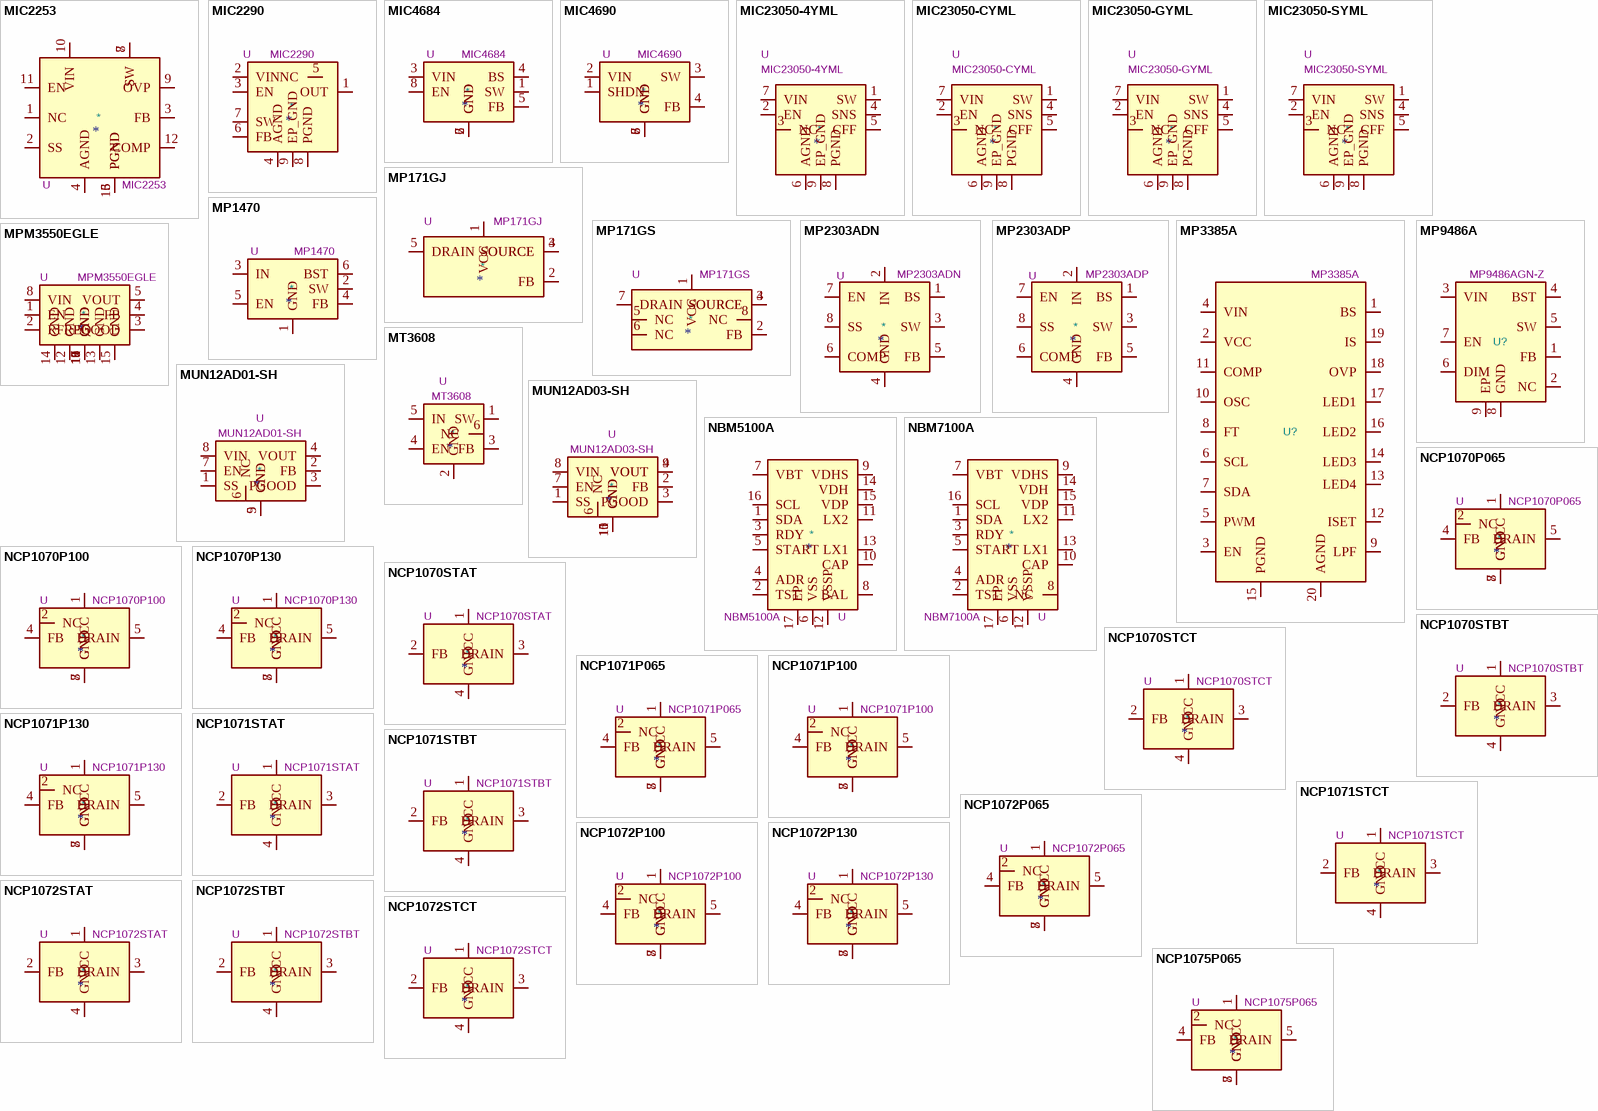
[diagram p16: symbols MIC2253 to NCP1075P065]

## MIC2253
designator *  value MIC2253  Reference: U
3.5A 1 MHz boost regulator, 2.5V to 10V input, up to 30V output, DFN-12; ki_keywords: switching voltage converter; ki_fp_filters: DFN*12*1EP*3x3mm*P0.5mm*EP1.6x2.5mm*; Footprint: Package_DFN_QFN:DFN-12-1EP_3x3mm_P0.5mm_EP1.6x2.5mm_ThermalVias; Datasheet: https://ww1.microchip.com/downloads/aemDocuments/documents/OTH/ProductDocuments/DataSheets/MIC2253-High-Current-1MHz-High-Efficiency-Boost-Regulator-with-OVP-and-Soft-Start-DS20006070A.pdf; Description_: 3.5A 1 MHz boost regulator, 2.5V to 10V input, up to 30V output, DFN-12
pins: 1 NC, 2 SS, 3 FB, 4 AGND, 5 PGND, 6 PGND, 7 SW, 8 SW, 9 OVP, 10 VIN, 11 EN, 12 COMP, 13 PGND

## MIC2290
designator *  value MIC2290  Reference: U
1.2 Mhz PWM Boost Regulator with Internal Schotty Diode, MLF-8; ki_keywords: boost switching voltage converter regulator; ki_fp_filters: Micrel*MLF*8*2x2mm*; Footprint: Package_DFN_QFN:Micrel_MLF-8-1EP_2x2mm_P0.5mm_EP0.8x1.3mm_ThermalVias; Datasheet: http://ww1.microchip.com/downloads/en/DeviceDoc/mic2290.pdf; Description_: 1.2 Mhz PWM Boost Regulator with Internal Schotty Diode, MLF-8
pins: 1 OUT, 2 VIN, 3 EN, 4 AGND, 5 NC, 6 FB, 7 SW, 8 PGND, 9 EP_GND

## MIC4684
designator *  value MIC4684  Reference: U
2A, 200kHz SuperSwitcher Buck Regulator, 4-30V Input Voltage, Adjustable Output Voltage, SO-8; ki_keywords: regulator switching adjustable; ki_fp_filters: SOIC*3.9x4.9mm*P1.27mm*; Footprint: Package_SO:SOIC-8_3.9x4.9mm_P1.27mm; Datasheet: https://ww1.microchip.com/downloads/en/DeviceDoc/MIC4684.pdf; Description_: 2A, 200kHz SuperSwitcher Buck Regulator, 4-30V Input Voltage, Adjustable Output Voltage, SO-8
pins: 1 SW, 2 GND, 3 VIN, 4 BS, 5 FB, 6 GND, 7 GND, 8 EN

## MIC4690
designator *  value MIC4690  Reference: U
1A, 500kHz SuperSwitcher Buck Regulator, 4-34V Input Voltage, Adjustable Output Voltage, SO-8; ki_keywords: regulator switching adjustable; ki_fp_filters: SOIC*3.9x4.9mm*P1.27mm*; Footprint: Package_SO:SOIC-8_3.9x4.9mm_P1.27mm; Datasheet: http://ww1.microchip.com/downloads/en/DeviceDoc/mic4690.pdf; Description_: 1A, 500kHz SuperSwitcher Buck Regulator, 4-34V Input Voltage, Adjustable Output Voltage, SO-8
pins: 1 SHDN, 2 VIN, 3 SW, 4 FB, 5 GND, 6 GND, 7 GND, 8 GND

## MIC23050-4YML
designator *  value MIC23050-4YML  Reference: U
4MHz PWM Buck Regulator with HyperLight Load Switching Scheme, 1.2V Fixed Output Voltage; ki_keywords: regulator switching; ki_fp_filters: Micrel*MLF*8*2x2mm*; Footprint: Package_DFN_QFN:Micrel_MLF-8-1EP_2x2mm_P0.5mm_EP0.6x1.2mm_ThermalVias; Datasheet: http://ww1.microchip.com/downloads/en/DeviceDoc/mic23050.pdf; Description_: 4MHz PWM Buck Regulator with HyperLight Load Switching Scheme, 1.2V Fixed Output Voltage
pins: 1 SW, 2 EN, 3 NC, 4 SNS, 5 CFF, 6 AGND, 7 VIN, 8 PGND, 9 EP_GND

## MIC23050-CYML
designator *  value MIC23050-CYML  Reference: U
4MHz PWM Buck Regulator with HyperLight Load Switching Scheme, 1.0V Fixed Output Voltage, MLF-8; ki_keywords: regulator switching; ki_fp_filters: Micrel*MLF*8*2x2mm*; Footprint: Package_DFN_QFN:Micrel_MLF-8-1EP_2x2mm_P0.5mm_EP0.6x1.2mm_ThermalVias; Datasheet: http://ww1.microchip.com/downloads/en/DeviceDoc/mic23050.pdf; Description_: 4MHz PWM Buck Regulator with HyperLight Load Switching Scheme, 1.0V Fixed Output Voltage, MLF-8
pins: 1 SW, 2 EN, 3 NC, 4 SNS, 5 CFF, 6 AGND, 7 VIN, 8 PGND, 9 EP_GND

## MIC23050-GYML
designator *  value MIC23050-GYML  Reference: U
4MHz PWM Buck Regulator with HyperLight Load Switching Scheme, 1.8V Fixed Output Voltage; ki_keywords: regulator switching; ki_fp_filters: Micrel*MLF*8*2x2mm*; Footprint: Package_DFN_QFN:Micrel_MLF-8-1EP_2x2mm_P0.5mm_EP0.6x1.2mm_ThermalVias; Datasheet: http://ww1.microchip.com/downloads/en/DeviceDoc/mic23050.pdf; Description_: 4MHz PWM Buck Regulator with HyperLight Load Switching Scheme, 1.8V Fixed Output Voltage
pins: 1 SW, 2 EN, 3 NC, 4 SNS, 5 CFF, 6 AGND, 7 VIN, 8 PGND, 9 EP_GND

## MIC23050-SYML
designator *  value MIC23050-SYML  Reference: U
4MHz PWM Buck Regulator with HyperLight Load Switching Scheme, 3.3V Fixed Output Voltage; ki_keywords: regulator switching; ki_fp_filters: Micrel*MLF*8*2x2mm*; Footprint: Package_DFN_QFN:Micrel_MLF-8-1EP_2x2mm_P0.5mm_EP0.6x1.2mm_ThermalVias; Datasheet: http://ww1.microchip.com/downloads/en/DeviceDoc/mic23050.pdf; Description_: 4MHz PWM Buck Regulator with HyperLight Load Switching Scheme, 3.3V Fixed Output Voltage
pins: 1 SW, 2 EN, 3 NC, 4 SNS, 5 CFF, 6 AGND, 7 VIN, 8 PGND, 9 EP_GND

## MP171GJ
designator *  value MP171GJ  Reference: U
60mA Non-Isolated Off-Line Regulator, 700V Input Voltage, Adjustable Output Voltage, TSOT-23-5; ki_keywords: regulator switching adjustable; ki_fp_filters: TSOT?23*; Footprint: Package_TO_SOT_SMD:TSOT-23-5; Datasheet: https://www.monolithicpower.com/pub/media/document/m/p/mp171_r1.01.pdf; Description_: 60mA Non-Isolated Off-Line Regulator, 700V Input Voltage, Adjustable Output Voltage, TSOT-23-5
pins: 1 VCC, 2 FB, 3 SOURCE, 4 SOURCE, 5 DRAIN

## MP171GS
designator *  value MP171GS  Reference: U
60mA Non-Isolated Off-Line Regulator, 700V Input Voltage, Adjustable Output Voltage, SOIC-8; ki_keywords: regulator switching adjustable; ki_fp_filters: SOIC*3.9x4.9mm*P1.27mm*; Footprint: Package_SO:SOIC-8_3.9x4.9mm_P1.27mm; Datasheet: https://www.monolithicpower.com/pub/media/document/m/p/mp171_r1.01.pdf; Description_: 60mA Non-Isolated Off-Line Regulator, 700V Input Voltage, Adjustable Output Voltage, SOIC-8
pins: 1 VCC, 2 FB, 3 SOURCE, 4 SOURCE, 5 NC, 6 NC, 7 DRAIN, 8 NC

## MP1470
designator *  value MP1470  Reference: U
High-Efficiency, 2A, 16V, 500kHz Synchronous, Step-Down Converter, TSOT-23-6; ki_keywords: buck converter; ki_fp_filters: TSOT?23*; Footprint: Package_TO_SOT_SMD:TSOT-23-6; Datasheet: https://www.monolithicpower.com/pub/media/document/MP1470_r1.02.pdf; Description_: High-Efficiency, 2A, 16V, 500kHz Synchronous, Step-Down Converter, TSOT-23-6
pins: 1 GND, 2 SW, 3 IN, 4 FB, 5 EN, 6 BST

## MP2303ADN
designator *  value MP2303ADN  Reference: U
Synchronous Rectified 3A, 28V, 360kHz Step-Down Converter, SOIC-8; ki_keywords: buck converter step down; ki_fp_filters: SOIC*1EP*3.9x4.9mm*P1.27mm*; Footprint: Package_SO:SOIC-8-1EP_3.9x4.9mm_P1.27mm_EP2.62x3.51mm; Datasheet: https://www.monolithicpower.com/pub/media/document/MP2303A_r1.1.pdf; Description_: Synchronous Rectified 3A, 28V, 360kHz Step-Down Converter, SOIC-8
pins: 1 BS, 2 IN, 3 SW, 4 GND, 5 FB, 6 COMP, 7 EN, 8 SS

## MP2303ADP
designator *  value MP2303ADP  Reference: U
Synchronous Rectified 3A, 28V, 360kHz Step-Down Converter, DIP-8; ki_keywords: buck converter step down; ki_fp_filters: DIP*W7.62mm*; Footprint: Package_DIP:DIP-8_W7.62mm; Datasheet: https://www.monolithicpower.com/pub/media/document/MP2303A_r1.1.pdf; Description_: Synchronous Rectified 3A, 28V, 360kHz Step-Down Converter, DIP-8
pins: 1 BS, 2 IN, 3 SW, 4 GND, 5 FB, 6 COMP, 7 EN, 8 SS

## MP3385A
designator U?  value MP3385A  (hidden comment: *)
Synchronous Rectified 3A, 28V, 360kHz Step-Down Converter, SOIC-8; Manufacturer: Monolithic Power Systems; Manufacturer Lifecycle Status: ACTIVE; Manufacturer Part Number: MP3385AGR-P; Description_: 4-String, 80V Output,WLED Controller with I2; ki_keywords: The MP3385A is a step-up controller with four; ki_fp_filters: QFN-20 (4mmx4mm); Reference: U; Footprint: QFN-20 (4mmx4mm); Datasheet: https://www.monolithicpower.com/en/documentview/productdocument/index/version/2/document_type/Datasheet/lang/en/sku/MP3385A/document_id/1610/; Category: Display Drivers; Country of Origin: Mainland China; Export Control Classification Number (ECCN) Code: EAR99; Harmonized Tariff Schedule (HTS) Code: 8542.39.00.60; Introduction Date: 2020-12-30; Lifecycle Status: Production; Supplier 1: Mouser; Supplier Part Number 1: 946-MP3385AGR-P; Supplier Packaging 1: Tape & Reel; Supplier Unit Price 1: $2.64; Supplier Location 1: US; DNP: *
footprint QFN-20-1EP_4x4mm_P0.5mm_EP2.6x2.6mm
pins: 1 BS, 2 VCC, 3 EN, 4 VIN, 5 PWM, 6 SCL, 7 SDA, 8 FT, 9 LPF, 10 OSC, 11 COMP, 12 ISET, 13 LED4, 14 LED3, 15 PGND, 16 LED2, 17 LED1, 18 OVP, 19 IS, 20 AGND

## MP9486A
designator U?  value MP9486AGN-Z  (hidden comment: *)
100V Input, 1A Continous 3.5A, Switching Current Limit / Step-Down Converter; Manufacturer: Monolithic Power Systems; Manufacturer Lifecycle Status: ACTIVE; Description_: 600mA, 100V Step-Down Switching Regulator, WSON-8; ki_keywords: Step-Down Switching Regulator High Voltage; Max Supply Voltage: 95V; Max Junction Temperature (Tj): 125°C; Max Power Dissipation: 3.6W; Max Switching Frequency: 1MHz; Min Input Voltage: 4.5V; Nominal Supply Voltage: 60V; Nominal Supply Current: 170µA; Number of Circuits: 1; Topology: Buck; Footprint: Package_SON:WSON-8-1EP_4x4mm_P0.8mm_EP1.98x3mm; Datasheet: http://www.ti.com/lit/ds/symlink/lm5017.pdf; Category: Voltage Regulators - Switching; China RoHS: Compliant; Height: 1.7mm; Height - Seated (Max): 1.7mm; Length: 4.9mm; Lifecycle Status: Production; Manufacturer Part Number: MP9486AGN-Z; Max Operating Temperature: 125°C; Min Operating Temperature: -40°C; Min Supply Voltage: 4.5V; Number of Outputs: 1; Number of Terminals: 8; Operating Supply Voltage: 60V; Output Current: 1A; REACH SVHC: Yes; RoHS: Compliant; Switching Frequency: 1MHz; Terminal Pitch: 1.27mm; Width: 3.9mm; Supplier 1: Mouser; Supplier Part Number 1: 946-MP9486AGN-Z; Supplier Packaging 1: Tape & Reel; Supplier Unit Price 1: $2.28; Supplier Location 1: US
footprint SOIC-8-1EP_3.9x4.9mm_P1.27mm_EP2.41x3.3mm_ThermalVias
pins: 1 FB, 2 NC, 3 VIN, 4 BST, 5 SW, 6 DIM, 7 EN, 8 GND, 9 EP

## MPM3550EGLE
designator *  value MPM3550EGLE  Reference: U
Synchronous Step-Down Regulator 5 Amp, 4.5V to 36V input voltage, 1.0V to 12.0V Adjustable Vout LGA-18; ki_fp_filters: MPS*LGA*10EP*12x12mm*P3.3mm*; Footprint: Package_LGA:MPS_LGA-18-10EP_12x12mm_P3.3mm; Datasheet: https://www.monolithicpower.com/en/documentview/productdocument/index/version/2/document_type/Datasheet/lang/en/sku/MPM3550EGLE/document_id/5102/; Description_: Synchronous Step-Down Regulator 5 Amp, 4.5V to 36V input voltage, 1.0V to 12.0V Adjustable Vout LGA-18; ki_keywords: Step-Down Regulator
pins: 1 EN, 2 RFREQ, 3 PGOOD, 4 FB, 5 VOUT, 6 GND, 7 GND, 8 VIN, 9 GND, 10 GND, 11 GND, 12 GND, 13 GND, 14 GND, 15 GND, 16 GND, 17 GND, 18 GND

## MT3608
designator *  value MT3608  Reference: U
High Efficiency 1.2MHz 2A Step Up Converter, 2-24V Vin, 28V Vout, 4A current limit, 1.2MHz, SOT23-6; ki_keywords: Step-Up Boost DC-DC Regulator Adjustable; ki_fp_filters: SOT*23*; Footprint: Package_TO_SOT_SMD:SOT-23-6; Datasheet: https://www.olimex.com/Products/Breadboarding/BB-PWR-3608/resources/MT3608.pdf; Description_: High Efficiency 1.2MHz 2A Step Up Converter, 2-24V Vin, 28V Vout, 4A current limit, 1.2MHz, SOT23-6
pins: 1 SW, 2 GND, 3 FB, 4 EN, 5 IN, 6 NC

## MUN12AD01-SH
designator *  value MUN12AD01-SH  Reference: U
DC/DC Switching Regulator, Power Module, 1A, Cyntec MUN12AD01; ki_keywords: DC/DC Switching Regulator Power Module 1A Cyntec MUN12AD01; ki_fp_filters: Converter?DCDC?Cyntec?MUN12AD01?SH*; Footprint: Converter_DCDC:Converter_DCDC_Cyntec_MUN12AD01-SH; Datasheet: http://www.cyntec.com/upfile/products/download/Cyntec%20MUN12AD01-SH_Datasheet.pdf; Description_: DC/DC Switching Regulator, Power Module, 1A, Cyntec MUN12AD01
pins: 1 SS, 2 FB, 3 PGOOD, 4 VOUT, 5 GND, 6 NC, 7 EN, 8 VIN, 9 GND

## MUN12AD03-SH
designator *  value MUN12AD03-SH  Reference: U
DC/DC Switching Regulator, Power Module, 3A, Cyntec MUN12AD03; ki_keywords: DC/DC Switching Regulator Power Module 3A Cyntec MUN12AD03; ki_fp_filters: Converter?DCDC?Cyntec?MUN12AD03?SH*; Footprint: Converter_DCDC:Converter_DCDC_Cyntec_MUN12AD03-SH; Datasheet: http://www.cyntec.com/upfile/products/download/Cyntec%20MUN12AD03-SH_Datasheet.pdf; Description_: DC/DC Switching Regulator, Power Module, 3A, Cyntec MUN12AD03
pins: 1 SS, 2 FB, 3 PGOOD, 4 VOUT, 5 GND, 6 NC, 7 EN, 8 VIN, 9 VOUT, 10 GND, 11 GND

## NBM5100A
designator *  value NBM5100A  Reference: U
coin cell booster charge pump DHVQFN16 SOT763; ki_fp_filters: DHVQFN*1EP*2.5x3.5mm*P0.5mm*; Footprint: Package_DFN_QFN:DHVQFN-16-1EP_2.5x3.5mm_P0.5mm_EP1x2mm; Datasheet: https://assets.nexperia.com/documents/data-sheet/NBM5100.pdf; Description_: coin cell booster charge pump DHVQFN16 SOT763; ki_keywords: charge pump
pins: 1 SDA, 2 TST, 3 RDY, 4 ADR, 5 START, 6 VSS, 7 VBT, 8 BAL, 9 VDHS, 10 CAP, 11 LX2, 12 VSSP, 13 LX1, 14 VDH, 15 VDP, 16 SCL, 17 EP

## NBM7100A
designator *  value NBM7100A  Reference: U
coin cell booster charge pump DHVQFN16 SOT763; ki_fp_filters: DHVQFN*1EP*2.5x3.5mm*P0.5mm*; Footprint: Package_DFN_QFN:DHVQFN-16-1EP_2.5x3.5mm_P0.5mm_EP1x2mm; Datasheet: https://assets.nexperia.com/documents/data-sheet/NBM7100.pdf; Description_: coin cell booster charge pump DHVQFN16 SOT763; ki_keywords: charge pump
pins: 1 SDA, 2 TST, 3 RDY, 4 ADR, 5 START, 6 VSS, 7 VBT, 8 NC, 9 VDHS, 10 CAP, 11 LX2, 12 VSSP, 13 LX1, 14 VDH, 15 VDP, 16 SCL, 17 EP

## NCP1070P065
designator *  value NCP1070P065  Reference: U
High-Voltage Switcher for Low Power Offline SMPS, 700V Vds, 14W/7.75W, 230V/85-265V, 65kHz, 22Ohm Rds(on), 250mA Ipk, DIP-7; ki_keywords: SMPS Converter; ki_fp_filters: DIP*N7*W7.62mm*; Footprint: Package_DIP:DIP-8-N7_W7.62mm; Datasheet: http://www.onsemi.com/pub/Collateral/NCP1070-D.PDF; Description_: High-Voltage Switcher for Low Power Offline SMPS, 700V Vds, 14W/7.75W, 230V/85-265V, 65kHz, 22Ohm Rds(on), 250mA Ipk, DIP-7
pins: 1 VCC, 2 NC, 3 GND, 4 FB, 5 DRAIN, 7 GND, 8 GND

## NCP1070P100
designator *  value NCP1070P100  Reference: U
High-Voltage Switcher for Low Power Offline SMPS, 700V Vds, 14W/7.75W, 230V/85-265V, 100kHz, 22Ohm Rds(on), 250mA Ipk, DIP-7; ki_keywords: SMPS Converter; ki_fp_filters: DIP*N7*W7.62mm*; Footprint: Package_DIP:DIP-8-N7_W7.62mm; Datasheet: http://www.onsemi.com/pub/Collateral/NCP1070-D.PDF; Description_: High-Voltage Switcher for Low Power Offline SMPS, 700V Vds, 14W/7.75W, 230V/85-265V, 100kHz, 22Ohm Rds(on), 250mA Ipk, DIP-7
pins: 1 VCC, 2 NC, 3 GND, 4 FB, 5 DRAIN, 7 GND, 8 GND

## NCP1070P130
designator *  value NCP1070P130  Reference: U
High-Voltage Switcher for Low Power Offline SMPS, 700V Vds, 14W/7.75W, 230V/85-265V, 130kHz, 22Ohm Rds(on), 250mA Ipk, DIP-7; ki_keywords: SMPS Converter; ki_fp_filters: DIP*N7*W7.62mm*; Footprint: Package_DIP:DIP-8-N7_W7.62mm; Datasheet: http://www.onsemi.com/pub/Collateral/NCP1070-D.PDF; Description_: High-Voltage Switcher for Low Power Offline SMPS, 700V Vds, 14W/7.75W, 230V/85-265V, 130kHz, 22Ohm Rds(on), 250mA Ipk, DIP-7
pins: 1 VCC, 2 NC, 3 GND, 4 FB, 5 DRAIN, 7 GND, 8 GND

## NCP1070STAT
designator *  value NCP1070STAT  Reference: U
High-Voltage Switcher for Low Power Offline SMPS, 700V Vds, 14W/7.75W, 230V/85-265V, 65kHz, 22Ohm Rds(on), 250mA Ipk, SOT-223; ki_keywords: SMPS Converter; ki_fp_filters: SOT?223*; Footprint: Package_TO_SOT_SMD:SOT-223; Datasheet: http://www.onsemi.com/pub/Collateral/NCP1070-D.PDF; Description_: High-Voltage Switcher for Low Power Offline SMPS, 700V Vds, 14W/7.75W, 230V/85-265V, 65kHz, 22Ohm Rds(on), 250mA Ipk, SOT-223
pins: 1 VCC, 2 FB, 3 DRAIN, 4 GND

## NCP1070STBT
designator *  value NCP1070STBT  Reference: U
High-Voltage Switcher for Low Power Offline SMPS, 700V Vds, 14W/7.75W, 230V/85-265V, 100kHz, 22Ohm Rds(on), 250mA Ipk, SOT-223; ki_keywords: SMPS Converter; ki_fp_filters: SOT?223*; Footprint: Package_TO_SOT_SMD:SOT-223; Datasheet: http://www.onsemi.com/pub/Collateral/NCP1070-D.PDF; Description_: High-Voltage Switcher for Low Power Offline SMPS, 700V Vds, 14W/7.75W, 230V/85-265V, 100kHz, 22Ohm Rds(on), 250mA Ipk, SOT-223
pins: 1 VCC, 2 FB, 3 DRAIN, 4 GND

## NCP1070STCT
designator *  value NCP1070STCT  Reference: U
High-Voltage Switcher for Low Power Offline SMPS, 700V Vds, 14W/7.75W, 230V/85-265V, 130kHz, 22Ohm Rds(on), 250mA Ipk, SOT-223; ki_keywords: SMPS Converter; ki_fp_filters: SOT?223*; Footprint: Package_TO_SOT_SMD:SOT-223; Datasheet: http://www.onsemi.com/pub/Collateral/NCP1070-D.PDF; Description_: High-Voltage Switcher for Low Power Offline SMPS, 700V Vds, 14W/7.75W, 230V/85-265V, 130kHz, 22Ohm Rds(on), 250mA Ipk, SOT-223
pins: 1 VCC, 2 FB, 3 DRAIN, 4 GND

## NCP1071P065
designator *  value NCP1071P065  Reference: U
High-Voltage Switcher for Low Power Offline SMPS, 700V Vds, 14W/7.75W, 230V/85-265V, 65kHz, 22Ohm Rds(on), 350mA Ipk, DIP-7; ki_keywords: SMPS Converter; ki_fp_filters: DIP*N7*W7.62mm*; Footprint: Package_DIP:DIP-8-N7_W7.62mm; Datasheet: http://www.onsemi.com/pub/Collateral/NCP1070-D.PDF; Description_: High-Voltage Switcher for Low Power Offline SMPS, 700V Vds, 14W/7.75W, 230V/85-265V, 65kHz, 22Ohm Rds(on), 350mA Ipk, DIP-7
pins: 1 VCC, 2 NC, 3 GND, 4 FB, 5 DRAIN, 7 GND, 8 GND

## NCP1071P100
designator *  value NCP1071P100  Reference: U
High-Voltage Switcher for Low Power Offline SMPS, 700V Vds, 14W/7.75W, 230V/85-265V, 100kHz, 22Ohm Rds(on), 350mA Ipk, DIP-7; ki_keywords: SMPS Converter; ki_fp_filters: DIP*N7*W7.62mm*; Footprint: Package_DIP:DIP-8-N7_W7.62mm; Datasheet: http://www.onsemi.com/pub/Collateral/NCP1070-D.PDF; Description_: High-Voltage Switcher for Low Power Offline SMPS, 700V Vds, 14W/7.75W, 230V/85-265V, 100kHz, 22Ohm Rds(on), 350mA Ipk, DIP-7
pins: 1 VCC, 2 NC, 3 GND, 4 FB, 5 DRAIN, 7 GND, 8 GND

## NCP1071P130
designator *  value NCP1071P130  Reference: U
High-Voltage Switcher for Low Power Offline SMPS, 700V Vds, 14W/7.75W, 230V/85-265V, 130kHz, 22Ohm Rds(on), 350mA Ipk, DIP-7; ki_keywords: SMPS Converter; ki_fp_filters: DIP*N7*W7.62mm*; Footprint: Package_DIP:DIP-8-N7_W7.62mm; Datasheet: http://www.onsemi.com/pub/Collateral/NCP1070-D.PDF; Description_: High-Voltage Switcher for Low Power Offline SMPS, 700V Vds, 14W/7.75W, 230V/85-265V, 130kHz, 22Ohm Rds(on), 350mA Ipk, DIP-7
pins: 1 VCC, 2 NC, 3 GND, 4 FB, 5 DRAIN, 7 GND, 8 GND

## NCP1071STAT
designator *  value NCP1071STAT  Reference: U
High-Voltage Switcher for Low Power Offline SMPS, 700V Vds, 14W/7.75W, 230V/85-265V, 65kHz, 22Ohm Rds(on), 350mA Ipk, SOT-223; ki_keywords: SMPS Converter; ki_fp_filters: SOT?223*; Footprint: Package_TO_SOT_SMD:SOT-223; Datasheet: http://www.onsemi.com/pub/Collateral/NCP1070-D.PDF; Description_: High-Voltage Switcher for Low Power Offline SMPS, 700V Vds, 14W/7.75W, 230V/85-265V, 65kHz, 22Ohm Rds(on), 350mA Ipk, SOT-223
pins: 1 VCC, 2 FB, 3 DRAIN, 4 GND

## NCP1071STBT
designator *  value NCP1071STBT  Reference: U
High-Voltage Switcher for Low Power Offline SMPS, 700V Vds, 14W/7.75W, 230V/85-265V, 100kHz, 22Ohm Rds(on), 350mA Ipk, SOT-223; ki_keywords: SMPS Converter; ki_fp_filters: SOT?223*; Footprint: Package_TO_SOT_SMD:SOT-223; Datasheet: http://www.onsemi.com/pub/Collateral/NCP1070-D.PDF; Description_: High-Voltage Switcher for Low Power Offline SMPS, 700V Vds, 14W/7.75W, 230V/85-265V, 100kHz, 22Ohm Rds(on), 350mA Ipk, SOT-223
pins: 1 VCC, 2 FB, 3 DRAIN, 4 GND

## NCP1071STCT
designator *  value NCP1071STCT  Reference: U
High-Voltage Switcher for Low Power Offline SMPS, 700V Vds, 14W/7.75W, 230V/85-265V, 130kHz, 22Ohm Rds(on), 350mA Ipk, SOT-223; ki_keywords: SMPS Converter; ki_fp_filters: SOT?223*; Footprint: Package_TO_SOT_SMD:SOT-223; Datasheet: http://www.onsemi.com/pub/Collateral/NCP1070-D.PDF; Description_: High-Voltage Switcher for Low Power Offline SMPS, 700V Vds, 14W/7.75W, 230V/85-265V, 130kHz, 22Ohm Rds(on), 350mA Ipk, SOT-223
pins: 1 VCC, 2 FB, 3 DRAIN, 4 GND

## NCP1072P065
designator *  value NCP1072P065  Reference: U
High-Voltage Switcher for Low Power Offline SMPS, 700V Vds, 19W/10W, 230V/85-265V, 65kHz, 11Ohm Rds(on), 250mA Ipk, DIP-7; ki_keywords: SMPS Converter; ki_fp_filters: DIP*N7*W7.62mm*; Footprint: Package_DIP:DIP-8-N7_W7.62mm; Datasheet: http://www.onsemi.com/pub/Collateral/NCP1070-D.PDF; Description_: High-Voltage Switcher for Low Power Offline SMPS, 700V Vds, 19W/10W, 230V/85-265V, 65kHz, 11Ohm Rds(on), 250mA Ipk, DIP-7
pins: 1 VCC, 2 NC, 3 GND, 4 FB, 5 DRAIN, 7 GND, 8 GND

## NCP1072P100
designator *  value NCP1072P100  Reference: U
High-Voltage Switcher for Low Power Offline SMPS, 700V Vds, 19W/10W, 230V/85-265V, 100kHz, 11Ohm Rds(on), 250mA Ipk, DIP-7; ki_keywords: SMPS Converter; ki_fp_filters: DIP*N7*W7.62mm*; Footprint: Package_DIP:DIP-8-N7_W7.62mm; Datasheet: http://www.onsemi.com/pub/Collateral/NCP1070-D.PDF; Description_: High-Voltage Switcher for Low Power Offline SMPS, 700V Vds, 19W/10W, 230V/85-265V, 100kHz, 11Ohm Rds(on), 250mA Ipk, DIP-7
pins: 1 VCC, 2 NC, 3 GND, 4 FB, 5 DRAIN, 7 GND, 8 GND